# EAGLE library part ADS1115 (library cpio)
Ultra-Small, Low-Power, 16-Bit, Analog-to-Digital Converter with Internal Reference
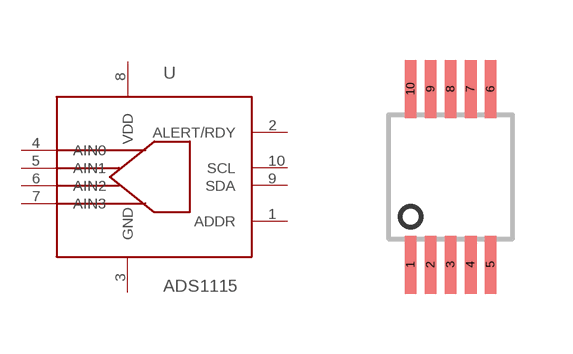
[diagram p3: symbol with the pads of TFSOP-10; footprint TFSOP-10]

Designator prefix -

## ADS1115  [TFSOP-10]
1  ADDR  in
2  ALERT/RDY  out
3  GND  pwr
4  AIN0  in
5  AIN1  in
6  AIN2  in
7  AIN3  in
8  VDD  pwr
9  SDA
10  SCL  in

## Footprint TFSOP-10 (pad centres in mm)
smd 0.3 x 1.45: 1 -1,-2.2; 2 -0.5,-2.2; 3 0,-2.2; 4 0.5,-2.2; 5 1,-2.2; 6 1,2.2; 7 0.5,2.2; 8 0,2.2; 9 -0.5,2.2; 10 -1,2.2